# Altium footprint library Vishay Sprague Tantalum Radial-Lead Capacitor.PcbLib: 71 footprints (part 1 of 5)
Each footprint in its own frame and in the unit in brackets; x right, y up, seen from the top. Pads: shape width x height; smd on the part's side, far side on the other; paste and mask are expansions set on the pad; w line width, h text height; cw(c..) or ccw(c..) is an arc to the next point about the centre after c.
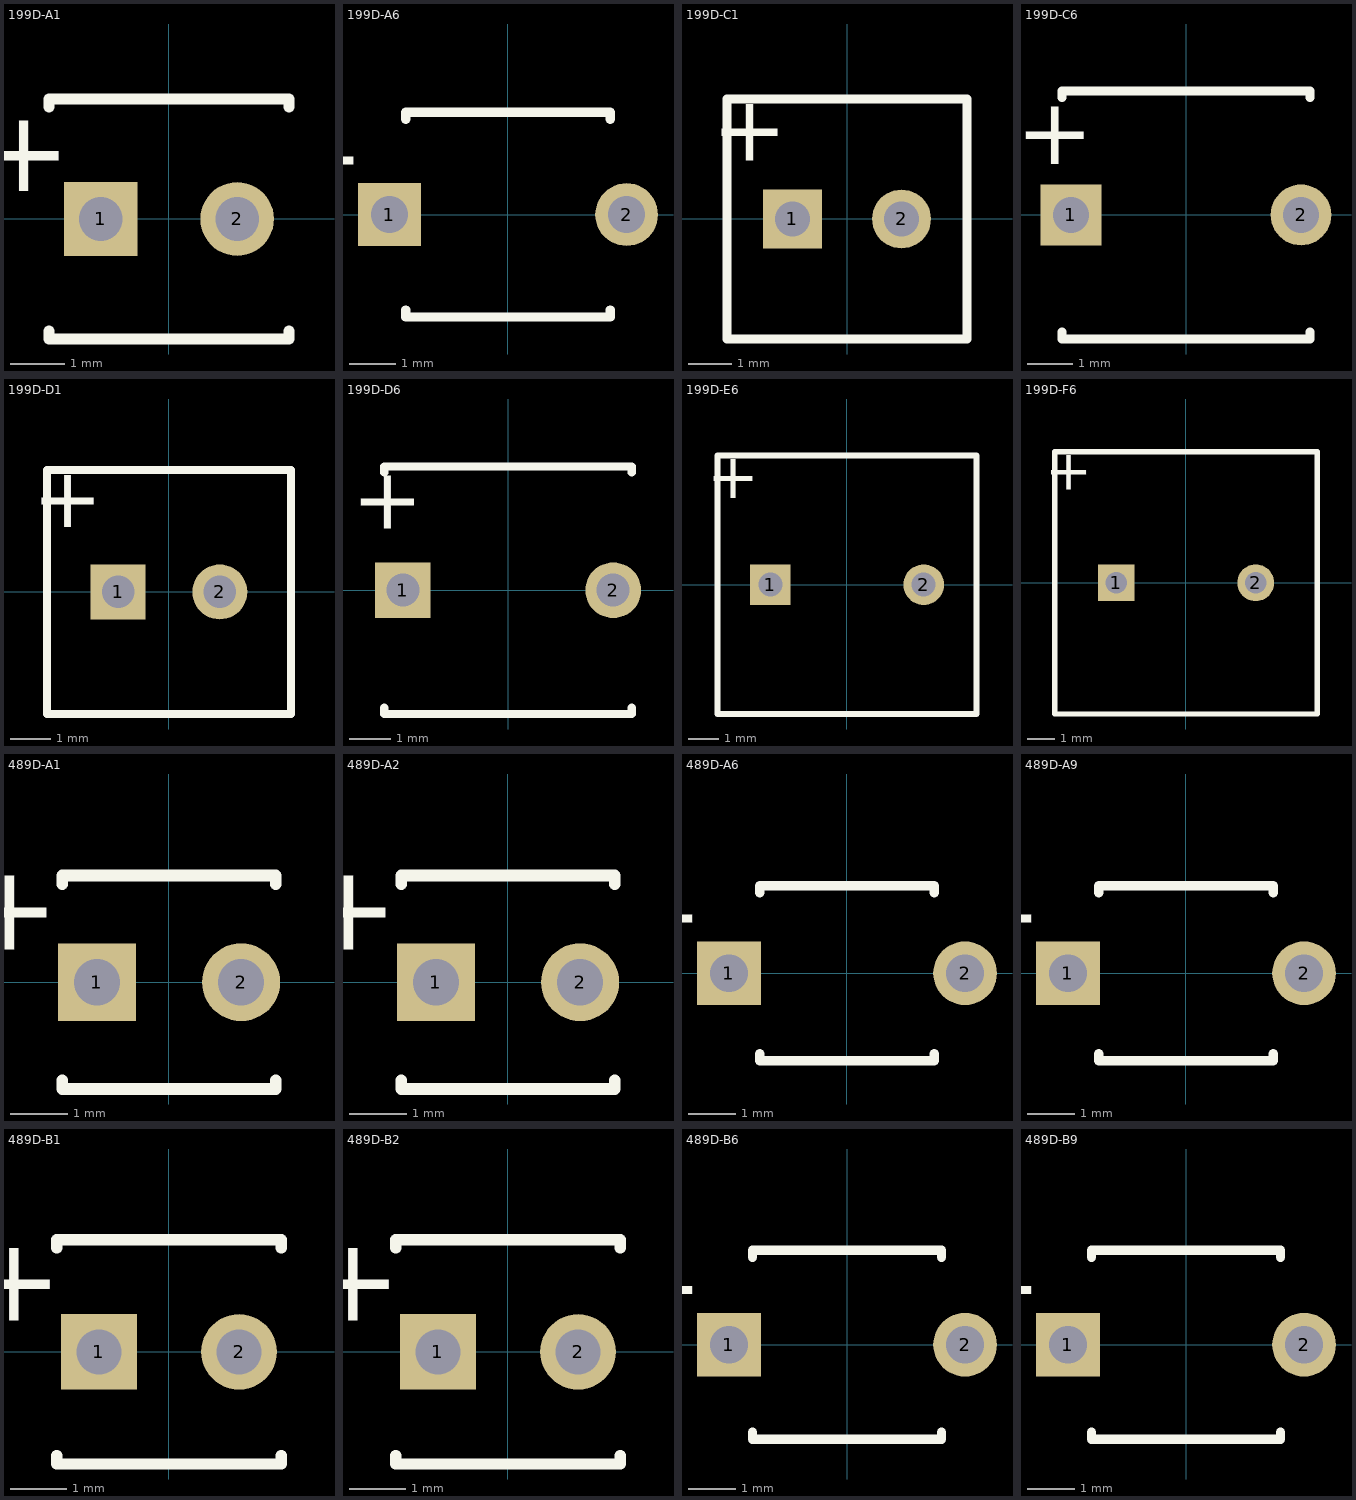
[diagram p0: the footprints below, top view; thin cyan lines are the x and y axes]

## 199D-A1 [mm] "Capacitor, Tantalum Bead; Body 4.4 x 7.11 mm (Dia.xH max); Pin Spacing 2.5 mm (typ)"
height 7.11
pads (2):
  rect 1.35x1.35 hole 0.8: 1(-1.25,0)
  round 1.35 hole 0.8: 2(1.25,0)
Top Overlay:
  lines w0.2: -2.2,-2.05 -2.2,-2.2 2.2,-2.2 2.2,-2.05 ; -2.2,2.05 -2.2,2.2 2.2,2.2 2.2,2.05
  text "+" at -1.8,1.8 h1.5

## 199D-A6 [mm] "Capacitor, Tantalum Bead; Body 4.4 x 8.64 mm (Dia.xH max); Pin Spacing 5.1 mm (typ)"
height 8.64
pads (2):
  rect 1.35x1.35 hole 0.8: 1(-2.55,0)
  round 1.35 hole 0.8: 2(2.55,0)
Top Overlay:
  lines w0.2: -2.2,-2.05 -2.2,-2.2 2.2,-2.2 2.2,-2.05 ; -2.2,2.05 -2.2,2.2 2.2,2.2 2.2,2.05
  text "+" at -3.1,1.8 h1.5

## 199D-C1 [mm] "Capacitor, Tantalum Bead; Body 5.5 x 9.14 mm (Dia.xH max); Pin Spacing 2.5 mm (typ)"
height 9.14
pads (2):
  rect 1.35x1.35 hole 0.8: 1(-1.25,0)
  round 1.35 hole 0.8: 2(1.25,0)
Top Overlay:
  lines w0.2: -2.75,-2.75 -2.75,2.75 2.75,2.75 2.75,-2.75 -2.75,-2.75
  text "+" at -1.375,2.625 h1.5

## 199D-C6 [mm] "Capacitor, Tantalum Bead; Body 5.5 x 10.67 mm (Dia.xH max); Pin Spacing 5.1 mm (typ)"
height 10.67
pads (2):
  rect 1.35x1.35 hole 0.8: 1(-2.55,0)
  round 1.35 hole 0.8: 2(2.55,0)
Top Overlay:
  lines w0.2: -2.75,-2.6 -2.75,-2.75 2.75,-2.75 2.75,-2.6 ; -2.75,2.6 -2.75,2.75 2.75,2.75 2.75,2.6
  text "+" at -2.05,2.4 h1.5

## 199D-D1 [mm] "Capacitor, Tantalum Bead; Body 6 x 10.16 mm (Dia.xH max); Pin Spacing 2.5 mm (typ)"
height 10.16
pads (2):
  rect 1.35x1.35 hole 0.8: 1(-1.25,0)
  round 1.35 hole 0.8: 2(1.25,0)
Top Overlay:
  lines w0.2: -3,-3 -3,3 3,3 3,-3 -3,-3
  text "+" at -1.625,2.875 h1.5

## 199D-D6 [mm] "Capacitor, Tantalum Bead; Body 6 x 11.68 mm (Dia.xH max); Pin Spacing 5.1 mm (typ)"
height 11.68
pads (2):
  rect 1.35x1.35 hole 0.8: 1(-2.55,0)
  round 1.35 hole 0.8: 2(2.55,0)
Top Overlay:
  lines w0.2: -3,-2.85 -3,-3 3,-3 3,-2.85 ; -3,2.85 -3,3 3,3 3,2.85
  text "+" at -2.05,2.77 h1.5

## 199D-E6 [mm] "Capacitor, Tantalum Bead; Body 8.6 x 14.02 mm (Dia.xH max); Pin Spacing 5.1 mm (typ)"
height 14.02
pads (2):
  rect 1.35x1.35 hole 0.8: 1(-2.55,0)
  round 1.35 hole 0.8: 2(2.55,0)
Top Overlay:
  lines w0.2: -4.3,-4.3 4.3,-4.3 4.3,4.3 -4.3,4.3 -4.3,-4.3
  text "+" at -2.925,4.175 h1.5

## 199D-F6 [mm] "Capacitor, Tantalum Bead; Body 9.6 x 18.03 mm (Dia.xH max); Pin Spacing 5.1 mm (typ)"
height 18.03
pads (2):
  rect 1.35x1.35 hole 0.8: 1(-2.55,0)
  round 1.35 hole 0.8: 2(2.55,0)
Top Overlay:
  lines w0.2: -4.8,-4.8 4.8,-4.8 4.8,4.8 -4.8,4.8 -4.8,-4.8
  text "+" at -3.425,4.675 h1.5

## 489D-A1 [mm] "Capacitor, Tantalum Bead; Body 3.7 x 7 mm (Dia.xH max); Pin Spacing 2.5 mm (typ)"
height 7
pads (2):
  rect 1.35x1.35 hole 0.8: 1(-1.249,0.001)
  round 1.35 hole 0.8: 2(1.251,0.001)
Top Overlay:
  lines w0.2: -1.849,-1.699 -1.849,-1.849 1.851,-1.849 1.851,-1.699 ; -1.849,1.701 -1.849,1.851 1.851,1.851 1.851,1.701
  text "+" at -1.9,1.85 h1.5

## 489D-A2 [mm] "Capacitor, Tantalum Bead; Body 3.7 x 7 mm (Dia.xH max); Pin Spacing 2.5 mm (typ)"
height 7
pads (2):
  rect 1.35x1.35 hole 0.8: 1(-1.249,0.001)
  round 1.35 hole 0.8: 2(1.251,0.001)
Top Overlay:
  lines w0.2: -1.849,-1.699 -1.849,-1.849 1.851,-1.849 1.851,-1.699 ; -1.849,1.701 -1.849,1.851 1.851,1.851 1.851,1.701
  text "+" at -1.9,1.85 h1.5

## 489D-A6 [mm] "Capacitor, Tantalum Bead; Body 3.7 x 9.5 mm (Dia.xH max); Pin Spacing 5.0 mm (typ)"
height 9.5
pads (2):
  rect 1.35x1.35 hole 0.8: 1(-2.5,0)
  round 1.35 hole 0.8: 2(2.5,0)
Top Overlay:
  lines w0.2: -1.85,-1.7 -1.85,-1.85 1.85,-1.85 1.85,-1.7 ; -1.85,1.7 -1.85,1.85 1.85,1.85 1.85,1.7
  text "+" at -3.05,1.8 h1.5

## 489D-A9 [mm] "Capacitor, Tantalum Bead; Body 3.7 x 10 mm (Dia.xH max); Pin Spacing 5.0 mm (typ)"
height 10
pads (2):
  rect 1.35x1.35 hole 0.8: 1(-2.5,0)
  round 1.35 hole 0.8: 2(2.5,0)
Top Overlay:
  lines w0.2: -1.85,-1.7 -1.85,-1.85 1.85,-1.85 1.85,-1.7 ; -1.85,1.7 -1.85,1.85 1.85,1.85 1.85,1.7
  text "+" at -3.05,1.8 h1.5

## 489D-B1 [mm] "Capacitor, Tantalum Bead; Body 4 x 7.5 mm (Dia.xH max); Pin Spacing 2.5 mm (typ)"
height 7.5
pads (2):
  rect 1.35x1.35 hole 0.8: 1(-1.25,0)
  round 1.35 hole 0.8: 2(1.25,0)
Top Overlay:
  lines w0.2: -2,-1.85 -2,-2 2,-2 2,-1.85 ; -2,1.85 -2,2 2,2 2,1.85
  text "+" at -1.9,1.85 h1.5

## 489D-B2 [mm] "Capacitor, Tantalum Bead; Body 4 x 7.5 mm (Dia.xH max); Pin Spacing 2.5 mm (typ)"
height 7.5
pads (2):
  rect 1.35x1.35 hole 0.8: 1(-1.25,0)
  round 1.35 hole 0.8: 2(1.25,0)
Top Overlay:
  lines w0.2: -2,-1.85 -2,-2 2,-2 2,-1.85 ; -2,1.85 -2,2 2,2 2,1.85
  text "+" at -1.9,1.85 h1.5

## 489D-B6 [mm] "Capacitor, Tantalum Bead; Body 4 x 10 mm (Dia.xH max); Pin Spacing 5.0 mm (typ)"
height 10
pads (2):
  rect 1.35x1.35 hole 0.8: 1(-2.5,0)
  round 1.35 hole 0.8: 2(2.5,0)
Top Overlay:
  lines w0.2: -2,-1.85 -2,-2 2,-2 2,-1.85 ; -2,1.85 -2,2 2,2 2,1.85
  text "+" at -3.05,1.8 h1.5

## 489D-B9 [mm] "Capacitor, Tantalum Bead; Body 4 x 10.5 mm (Dia.xH max); Pin Spacing 5.0 mm (typ)"
height 10.5
pads (2):
  rect 1.35x1.35 hole 0.8: 1(-2.5,0)
  round 1.35 hole 0.8: 2(2.5,0)
Top Overlay:
  lines w0.2: -2,-1.85 -2,-2 2,-2 2,-1.85 ; -2,1.85 -2,2 2,2 2,1.85
  text "+" at -3.05,1.8 h1.5